# Altium footprint library ISL6236A_DEMO.PcbLib: 9 footprints
Each footprint in its own frame and in the unit in brackets; x right, y up, seen from the top. Pads: shape width x height; smd on the part's side, far side on the other; paste and mask are expansions set on the pad; w line width, h text height; cw(c..) or ccw(c..) is an arc to the next point about the centre after c.
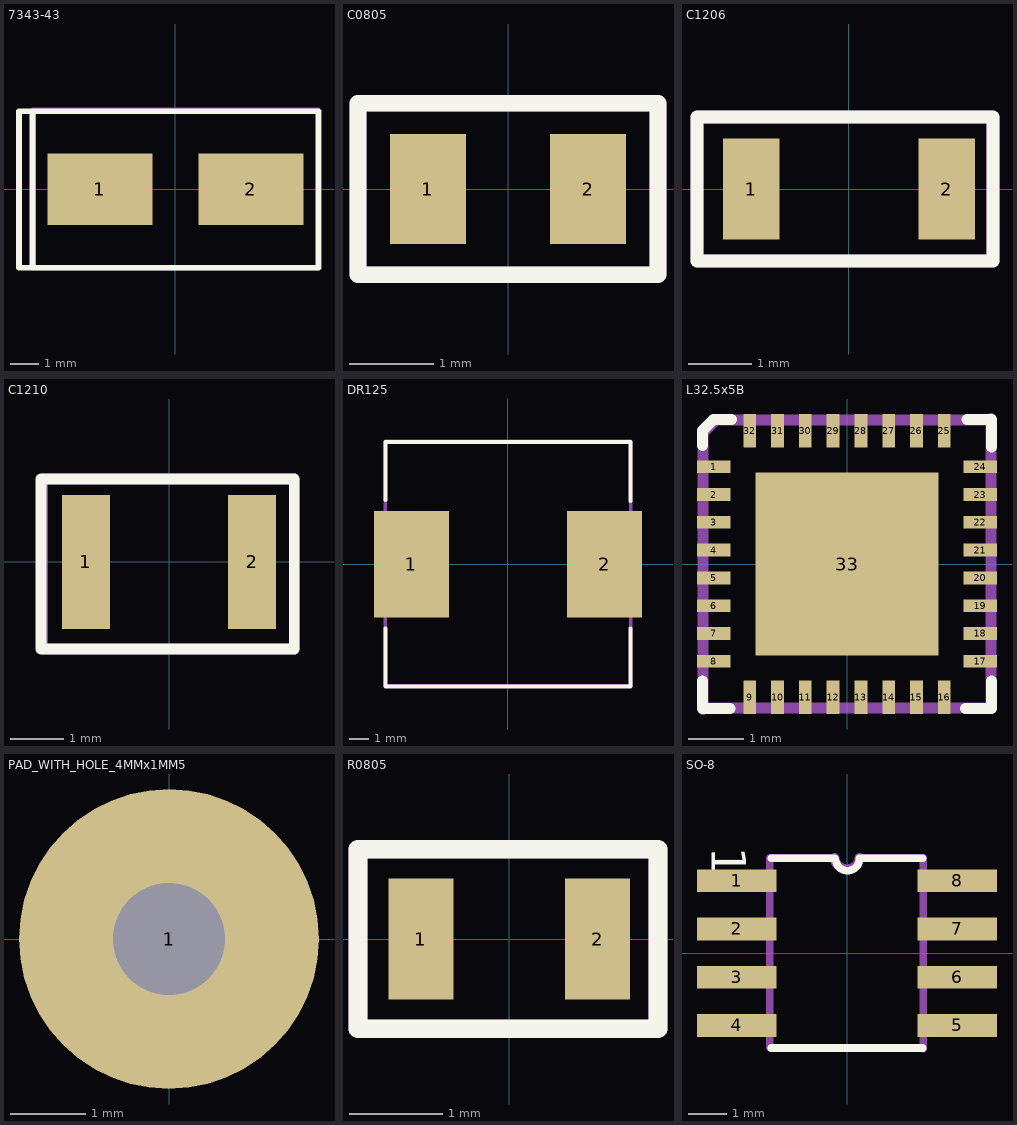
[diagram p0: the footprints below, top view; thin cyan lines are the x and y axes]

## 7343-43 [mm]
pads (2):
  rect 3.75x2.55 smd: 1(-2.7,0) 2(2.7,0)
Top Overlay:
  lines w0.2: -5.105,-2.794 -5.588,-2.794 -5.588,2.794 -5.105,2.794 ; -5.105,-2.794 5.105,-2.794 5.105,2.794 -5.105,2.794 ; -5.105,-2.794 -5.105,2.794
Mechanical 29:
  lines w0.2: -5.08,-2.794 5.131,-2.794 5.131,2.794 5.105,2.819 -5.08,2.819 -5.08,-2.794
  text ".designator" at -2.186,-0.03 h0.6
3D body "CTSM_TCM2NKKO_7343_L7.6W4.6H4.3T0.13S1.3F2.5A3.6B0.65P1.7R1X0.2.step": height 4.25, standoff -0.06, extent -3.825,-2.339 3.775,2.261

## C0805 [mm]
pads (2):
  rect 0.9x1.3 smd: 1(-0.95,0) 2(0.95,0)
Top Overlay:
  lines w0.2: -1.778,-1.016 -1.778,1.016 1.778,1.016 1.778,-1.016 -1.778,-1.016
Mechanical 29:
  lines w0.2: -1.778,-1.016 -1.778,1.016 1.778,1.016 1.778,-1.016 -1.778,-1.016
  text ".designator" at -1.17,-0.208 h0.6
3D body "CAPC2012X145N EIA 0805.step": height 1.46, standoff 0.01, extent -1.016,-0.6 0.984,0.6

## C1206 [mm]
pads (2):
  rect 0.9x1.6 smd: 1(-1.55,0) 2(1.55,0)
Top Overlay:
  lines w0.2: -2.413,-1.143 -2.413,1.143 2.286,1.143 2.286,-1.143 -2.413,-1.143
Mechanical 29:
  lines w0.2: -2.413,-1.143 -2.413,1.143 2.286,1.143 2.286,-1.143 -2.413,-1.143
  text ".designator" at -0.535,-0.081 h0.6
3D body "User Library-Vhip cap 1206.step": height 1.71, standoff 0.01, extent -1.549,-0.889 1.651,0.851

## C1210 [mm]
pads (2):
  rect 0.9x2.5 smd: 1(-1.55,0) 2(1.549,0)
Top Overlay:
  lines w0.2: -2.388,-1.626 -2.388,1.549 2.337,1.549 2.337,-1.626 -2.388,-1.626
Mechanical 29:
  lines w0.2: -2.362,-1.626 2.337,-1.626 2.337,1.549 -2.362,1.549 -2.362,-1.626
  text ".designator" at -0.814,-0.132 h0.6
3D body "CAPC3225X100N EIA 1210.step": height 1.01, standoff 0.01, extent -1.574,-1.25 1.626,1.25

## DR125 [mm]
pads (2):
  rect 3.85x5.5 smd: 1(-4.975,0) 2(4.975,0)
Top Overlay:
  lines w0.2: -6.3,-3.303 -6.3,-6.3 6.3,-6.3 6.3,-3.303 ; -6.3,3.303 -6.3,6.3 6.3,6.3 ; 6.299,3.251 6.299,6.248
Mechanical 29:
  lines w0.2: -6.325,-6.248 -6.325,6.325 6.325,6.325 6.325,-6.248 6.299,-6.274 -6.299,-6.274 -6.325,-6.248
  text ".designator" at 0.024,-0.081 h0.6
3D body "User Library-dr125.step": height 7.76, standoff -0.24, extent -6.252,-6.248 6.248,6.252

## L32.5x5B [mm]
pads (33):
  rect 0.6x0.23 smd mask+0.051: 1(-2.4,1.75) 2(-2.4,1.25) 3(-2.4,0.75) 4(-2.4,0.25) 5(-2.4,-0.25) 6(-2.4,-0.75) 7(-2.4,-1.25) 8(-2.4,-1.75) 17(2.4,-1.75) 18(2.4,-1.25) 19(2.4,-0.75) 20(2.4,-0.25) 21(2.4,0.25) 22(2.4,0.75) 23(2.4,1.25) 24(2.4,1.75)
  rect 0.23x0.6 smd mask+0.051: 9(-1.75,-2.4) 10(-1.25,-2.4) 11(-0.75,-2.4) 12(-0.25,-2.4) 13(0.25,-2.4) 14(0.75,-2.4) 15(1.25,-2.4) 16(1.75,-2.4) 25(1.75,2.4) 26(1.25,2.4) 27(0.75,2.4) 28(0.25,2.4) 29(-0.25,2.4) 30(-0.75,2.4) 31(-1.25,2.4) 32(-1.75,2.4)
  rect 3.3x3.3 smd mask+0.051: 33(0,0)
Top Overlay:
  lines w0.2: -2.6,-2.108 -2.6,-2.6 -2.108,-2.6 ; -2.6,2.134 -2.6,2.4 -2.4,2.6 -2.083,2.6 ; 2.134,-2.6 2.6,-2.6 2.6,-2.108 ; 2.159,2.6 2.6,2.6 2.6,2.108
Mechanical 29:
  lines w0.2: -2.591,-2.616 -2.591,2.362 -2.362,2.591 2.565,2.591 2.591,2.616 2.591,-2.591 -2.565,-2.591 -2.591,-2.616
  text ".designator" at -0.891,0.021 h0.6
3D body "QFN32_5X5_INR.step": height 0.99, standoff 0, extent -2.502,-2.502 2.502,2.502

## PAD_WITH_HOLE_4MMx1MM5 [mm]
pads (1):
  round 4 hole 1.5: 1(0,0)

## R0805 [mm]
pads (2):
  rect 0.7x1.3 smd: 1(-0.95,0) 2(0.95,0)
Top Overlay:
  lines w0.2: -1.626,-0.965 1.6,-0.965 1.6,0.965 -1.626,0.965 ; -1.626,-0.94 -1.626,0.94
Mechanical 29:
  lines w0.2: -1.626,-0.965 1.6,-0.965 1.6,0.965 -1.626,0.965 -1.626,-0.965
  text ".designator" at -0.865,-0.226 h0.7
3D body "User Library-CR2012-0805.step": height 0.61, standoff 0.01, extent -0.975,-0.625 1.025,0.625

## SO-8 [mm]
pads (8):
  rect 2.1x0.6 smd: 1(-2.9,1.905) 2(-2.9,0.635) 3(-2.9,-0.635) 4(-2.9,-1.905) 5(2.9,-1.905) 6(2.9,-0.635) 7(2.9,0.635) 8(2.9,1.905)
Top Overlay:
  lines w0.2: -2,-2.5 2,-2.5 ; -2,2.5 -0.318,2.5 ; -0.305,2.489 ccw(c0.013,2.489) 0.33,2.489 ; 0.318,2.5 2,2.5
  text "1" at -3.559,2.797 h0.9
Mechanical 29:
  lines w0.2: -0.33,2.515 -2.032,2.515 -2.032,-2.489 1.981,-2.489 2.007,-2.515 2.007,2.515 0.33,2.515
  lines w0.254: -0.33,2.515 ccw(c0,2.541) 0.33,2.515
  text ".designator" at -0.51,-0.03 h0.6
3D body "SOIC8_NARROW_VIS.step": height 1.76, standoff 0, extent -3.099,-2.489 3.099,2.489